# Altium footprint library WCTopping.PcbLib: 23 footprints (part 2 of 2)
Each footprint in its own frame and in the unit in brackets; x right, y up, seen from the top. Pads: shape width x height; smd on the part's side, far side on the other; paste and mask are expansions set on the pad; w line width, h text height; cw(c..) or ccw(c..) is an arc to the next point about the centre after c.
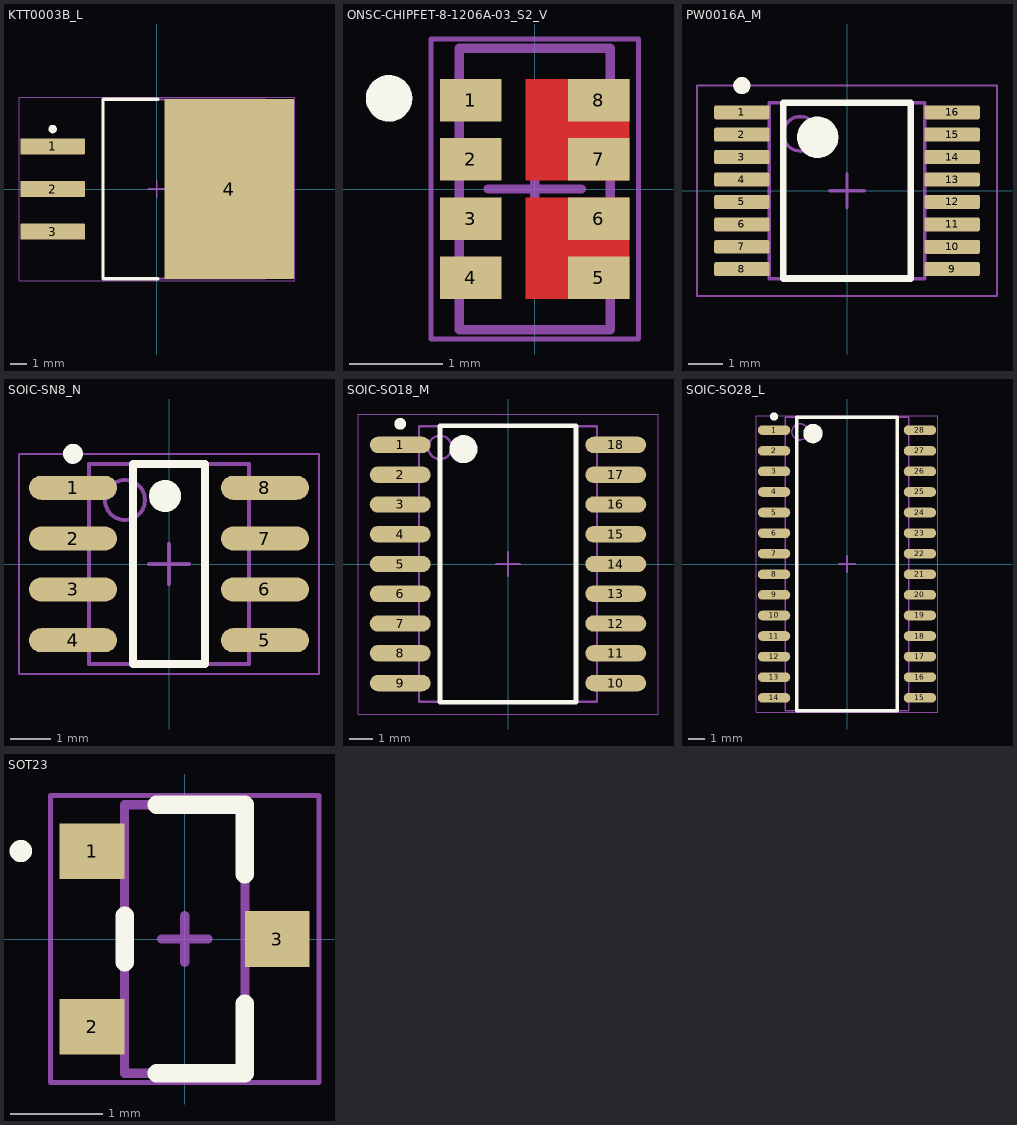
[diagram p1: the footprints below, top view; thin cyan lines are the x and y axes]

## KTT0003B_L [mm]
pads (4):
  rrect11% 3.85x0.95 smd: 1(-6.2,2.54) 2(-6.2,0) 3(-6.2,-2.54)
  rrect1% 7.7x10.7 smd: 4(4.3,0)
Top Overlay:
  circle w0.25: c-6.2,3.565 r0.125
  lines w0.2: 0.05,-5.35 -3.2,-5.35 -3.2,5.35 0.05,5.35
Mechanical 1:
  text ".Designator" at -4.064,-1.016 h1.2
Mechanical 13:
  lines w0.1: -3.2,-5.325 -3.2,5.325 6.45,5.325 6.45,-5.325 -3.2,-5.325
Mechanical 15:
  lines w0.05: -8.2,-5.45 -8.2,5.45 8.2,5.45 8.2,-5.45 -8.2,-5.45
  lines w0.1: -0.5,0 0.5,0 ; 0,-0.5 0,0.5
3D body "KTT0003B.stp": height 4.72, standoff 0, extent -7.799,-5.08 6.501,5.08

## ONSC-CHIPFET-8-1206A-03_S2_V [mm]
pads (8):
  rect 0.66x0.457 smd: 1(-0.686,0.953) 2(-0.686,0.318) 3(-0.686,-0.318) 4(-0.686,-0.953) 5(0.686,-0.953) 6(0.686,-0.318) 7(0.686,0.318) 8(0.686,0.953)
Top Layer:
  rectangle: -0.102,0.089 1.016,1.181
  rectangle: -0.102,-1.181 1.016,-0.089
Top Overlay:
  circle w0.25: c-1.566,0.975 r0.125
Mechanical 13:
  lines w0.1: -0.812,-1.513 0.812,-1.513 0.812,1.513 -0.812,1.513 -0.812,-1.513
Mechanical 15:
  lines w0.05: -1.116,-1.612 1.116,-1.612 1.116,1.612 -1.116,1.612 -1.116,-1.612
  lines w0.1: -0.5,0 0.5,0 ; 0,-0.5 0,0.5
3D body: height 1.1, standoff 0, extent -0.825,-1.525 0.825,1.525

## PW0016A_M [mm]
pads (16):
  rrect22% 1.6x0.406 smd: 1(-3.05,2.275) 2(-3.05,1.625) 3(-3.05,0.975) 4(-3.05,0.325) 5(-3.05,-0.325) 6(-3.05,-0.975) 8(-3.05,-2.275) 9(3.05,-2.275) 10(3.05,-1.625) 11(3.05,-0.975) 12(3.05,-0.325) 13(3.05,0.325) 14(3.05,0.975) 15(3.05,1.625) 16(3.05,2.275)
  rrect22% 1.6x0.381 smd: 7(-3.05,-1.625)
Top Overlay:
  circle w0.6: c-0.85,1.55 r0.3
  circle w0.25: c-3.05,3.05 r0.125
  lines w0.2: -1.85,-2.55 1.85,-2.55 1.85,2.55 -1.85,2.55 -1.85,-2.55
Mechanical 1:
  text ".Designator" at -1.524,-0.508 h1.02
Mechanical 13:
  circle w0.1: c-1.35,1.65 r0.5
  lines w0.1: -2.25,-2.55 2.25,-2.55 2.25,2.55 -2.25,2.55 -2.25,-2.55
Mechanical 15:
  lines w0.05: -4.35,-3.05 4.35,-3.05 4.35,3.05 -4.35,3.05 -4.35,-3.05
  lines w0.1: -0.5,0 0.5,0 ; 0,-0.5 0,0.5
3D body "PW0016AakaMTC16.stp": height 1, standoff 0, extent -3.21,-2.5 3.21,2.5

## SOIC-SN8_N [mm]
pads (8):
  oval 2.2x0.6 smd: 1(-2.4,1.905) 2(-2.4,0.635) 3(-2.4,-0.635) 4(-2.4,-1.905) 5(2.4,-1.905) 6(2.4,-0.635) 7(2.4,0.635) 8(2.4,1.905)
Top Overlay:
  circle w0.25: c-2.4,2.755 r0.125
  circle w0.4: c-0.1,1.7 r0.2
  lines w0.2: -0.9,-2.5 -0.9,2.5 0.9,2.5 0.9,-2.5 -0.9,-2.5
Mechanical 13:
  circle w0.1: c-1.1,1.6 r0.5
  lines w0.1: -2,-2.5 -2,2.5 2,2.5 2,-2.5 -2,-2.5
Mechanical 15:
  lines w0.05: -3.75,-2.75 -3.75,2.75 3.75,2.75 3.75,-2.75 -3.75,-2.75
  lines w0.1: -0.5,0 0.5,0 ; 0,-0.5 0,0.5
3D body: height 1.75, standoff 0.1, extent -2,-2.5 2,2.5

## SOIC-SO18_M [mm]
pads (18):
  oval 2.6x0.7 smd: 1(-4.6,5.08) 2(-4.6,3.81) 3(-4.6,2.54) 4(-4.6,1.27) 5(-4.6,0) 6(-4.6,-1.27) 7(-4.6,-2.54) 8(-4.6,-3.81) 9(-4.6,-5.08) 10(4.6,-5.08) 11(4.6,-3.81) 12(4.6,-2.54) 13(4.6,-1.27) 14(4.6,0) 15(4.6,1.27) 16(4.6,2.54) 17(4.6,3.81) 18(4.6,5.08)
Top Overlay:
  circle w0.25: c-4.6,5.98 r0.125
  circle w0.6: c-1.9,4.9 r0.3
  lines w0.2: -2.9,-5.9 -2.9,5.9 2.9,5.9 2.9,-5.9 -2.9,-5.9
Mechanical 13:
  circle w0.1: c-2.9,4.975 r0.5
  lines w0.1: -3.8,-5.875 -3.8,5.875 3.8,5.875 3.8,-5.875 -3.8,-5.875
Mechanical 15:
  lines w0.05: -6.4,-6.4 -6.4,6.4 6.4,6.4 6.4,-6.4 -6.4,-6.4
  lines w0.1: -0.5,0 0.5,0 ; 0,-0.5 0,0.5
3D body: height 2.65, standoff 0.1, extent -3.8,-5.875 3.8,5.875

## SOIC-SO28_L [mm]
pads (28):
  oval 2x0.6 smd: 1(-4.5,8.255) 2(-4.5,6.985) 3(-4.5,5.715) 4(-4.5,4.445) 5(-4.5,3.175) 6(-4.5,1.905) 7(-4.5,0.635) 8(-4.5,-0.635) 9(-4.5,-1.905) 10(-4.5,-3.175) 11(-4.5,-4.445) 12(-4.5,-5.715) 13(-4.5,-6.985) 14(-4.5,-8.255) 15(4.5,-8.255) 16(4.5,-6.985) 17(4.5,-5.715) 18(4.5,-4.445) 19(4.5,-3.175) 20(4.5,-1.905) 21(4.5,-0.635) 22(4.5,0.635) 23(4.5,1.905) 24(4.5,3.175) 25(4.5,4.445) 26(4.5,5.715) 27(4.5,6.985) 28(4.5,8.255)
Top Overlay:
  circle w0.25: c-4.5,9.105 r0.125
  circle w0.6: c-2.1,8.05 r0.3
  lines w0.2: -3.1,-9.05 -3.1,9.05 3.1,9.05 3.1,-9.05 -3.1,-9.05
Mechanical 13:
  circle w0.1: c-2.9,8.15 r0.5
  lines w0.1: -3.8,-9.05 -3.8,9.05 3.8,9.05 3.8,-9.05 -3.8,-9.05
Mechanical 15:
  lines w0.05: -5.6,-9.15 -5.6,9.15 5.6,9.15 5.6,-9.15 -5.6,-9.15
  lines w0.1: -0.5,0 0.5,0 ; 0,-0.5 0,0.5
3D body: height 2.65, standoff 0.1, extent -3.8,-9.05 3.8,9.05

## SOT23 [mm]
pads (3):
  rect 0.7x0.6 smd paste-0.05: 1(-1,0.95) 2(-1,-0.95) 3(1,0)
Top Overlay:
  circle w0.2: c-1.77,0.95 r0.02
  lines w0.2: -0.65,-0.25 -0.65,0.25 ; -0.304,-1.45 0.65,-1.45 0.65,-0.7 ; -0.304,1.45 0.65,1.45 0.65,0.7
Mechanical 13:
  lines w0.1: -0.65,-1.45 -0.65,1.45 0.65,1.45 0.65,-1.45 -0.65,-1.45
Mechanical 15:
  lines w0.05: -1.45,-1.55 1.45,-1.55 1.45,1.55 -1.45,1.55 -1.45,-1.55
  lines w0.1: -0.25,0 0.25,0 ; 0,-0.25 0,0.25
3D body "SOT95P230X110-3L.step": height 1.1, standoff 0, extent -1.3,-1.5 1.3,1.5